# Altium schematic symbol library SnapEDAsch.SchLib: 1 symbol
Pins are listed as number, name and electrical type; pins without a type are passive.

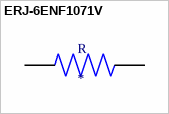
[diagram p0: symbol ERJ-6ENF1071V]

## ERJ-6ENF1071V
designator R
Res Thick Film 0805 1.07K Ohm 1% 0.125W_1/8W_ Â±100ppm/Â°C Molded SMD Automotive T/R; MP: ERJ-6ENF1071V; MF: Panasonic; Package: 2012 Panasonic Electronic Components; SnapEDA_Link: https://www.snapeda.com/parts/ERJ-6ENF1071V/Panasonic/view-part/379400/?ref=snap; Value: *; Digi-Key_Part_Number: P1.07KCCT-ND; Digi-Key_Purchase_URL: https://www.digikey.com/product-detail/en/panasonic-electronic-components/ERJ-6ENF1071V/P1.07KCCT-ND/118966?utm_source=snapeda&utm_medium=aggregator&utm_campaign=symbol
footprint RESC2012X70N
pins: 1, 2